# EAGLE library part DSPIC33EP512MU814 (library MyComponents)
dsPIC33EP512MU814
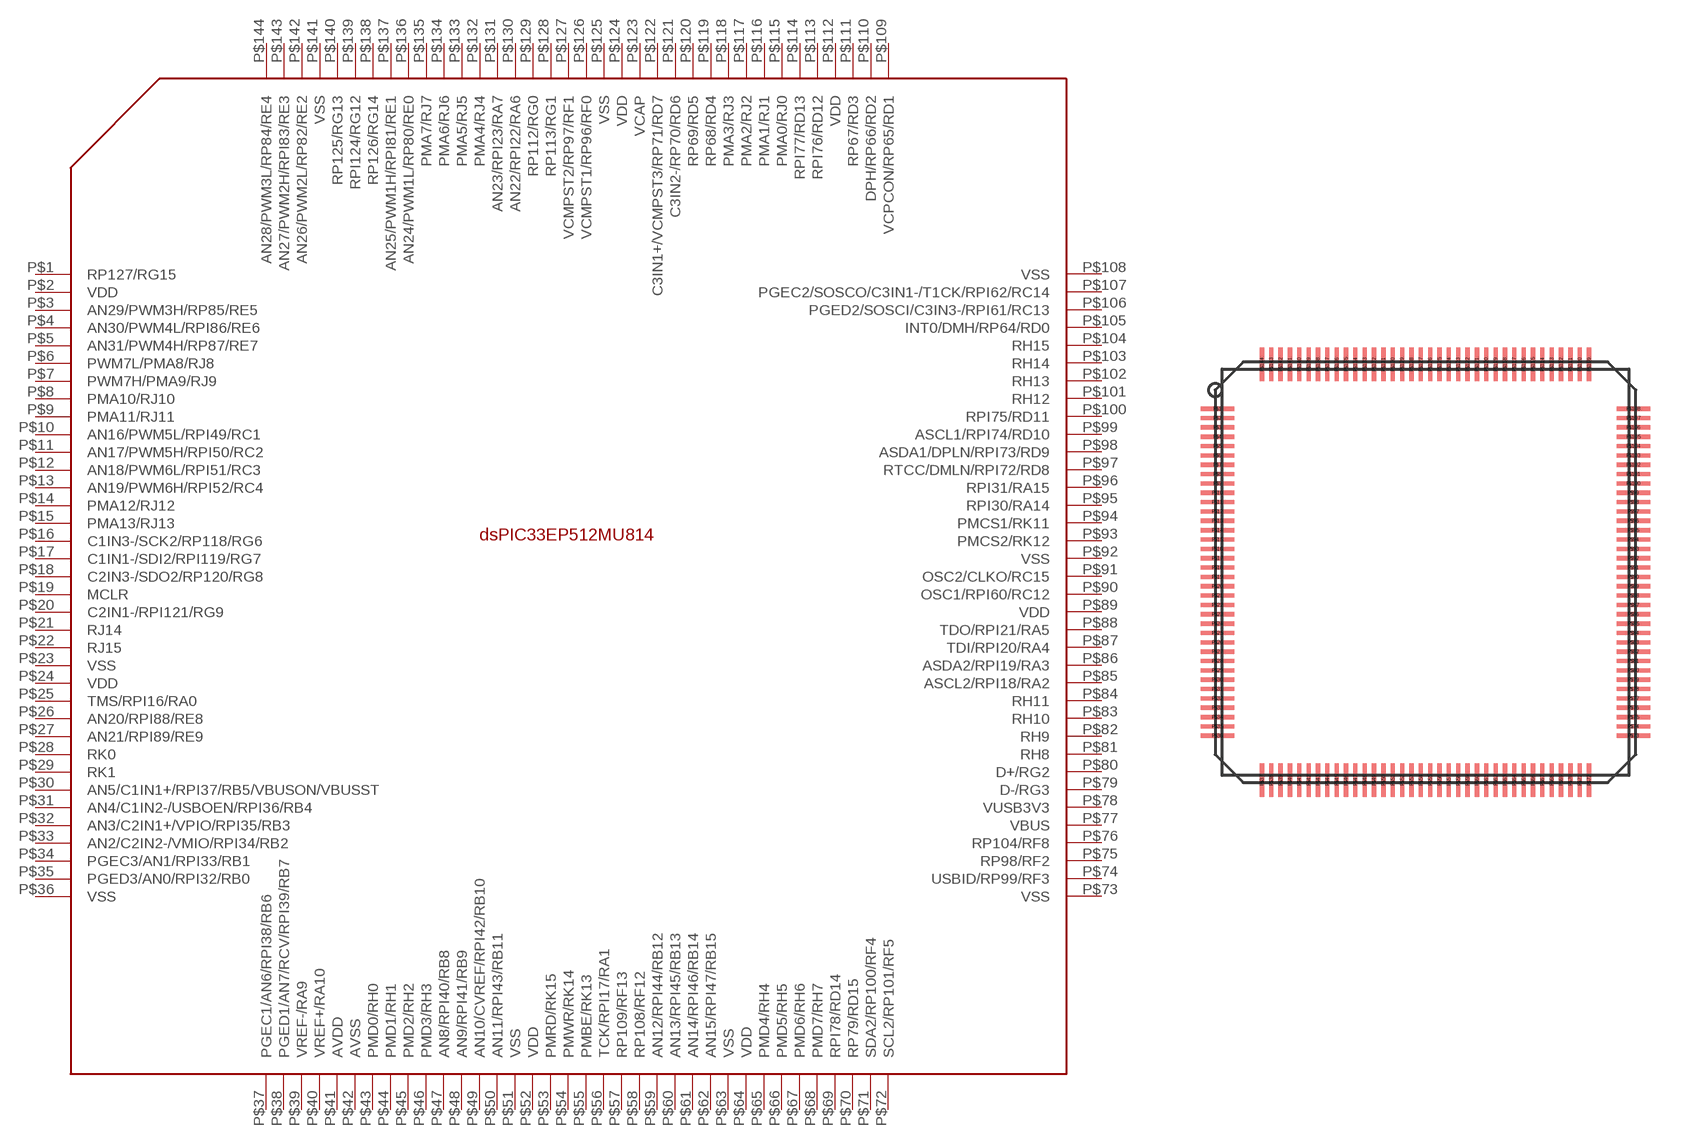
[diagram p4: symbol with the pads of TQFP144-0.40; footprint TQFP144-0.40]

Designator prefix -

## DSPIC33EP512MU814  [TQFP144-0.40]
P$1  RP127/RG15
P$2  VDD
P$3  AN29/PWM3H/RP85/RE5
P$4  AN30/PWM4L/RPI86/RE6
P$5  AN31/PWM4H/RP87/RE7
P$6  PWM7L/PMA8/RJ8
P$7  PWM7H/PMA9/RJ9
P$8  PMA10/RJ10
P$9  PMA11/RJ11
P$10  AN16/PWM5L/RPI49/RC1
P$11  AN17/PWM5H/RPI50/RC2
P$12  AN18/PWM6L/RPI51/RC3
P$13  AN19/PWM6H/RPI52/RC4
P$14  PMA12/RJ12
P$15  PMA13/RJ13
P$16  C1IN3-/SCK2/RP118/RG6
P$17  C1IN1-/SDI2/RPI119/RG7
P$18  C2IN3-/SDO2/RP120/RG8
P$19  MCLR
P$20  C2IN1-/RPI121/RG9
P$21  RJ14
P$22  RJ15
P$23  VSS
P$24  VDD
P$25  TMS/RPI16/RA0
P$26  AN20/RPI88/RE8
P$27  AN21/RPI89/RE9
P$28  RK0
P$29  RK1
P$30  AN5/C1IN1+/RPI37/RB5/VBUSON/VBUSST
P$31  AN4/C1IN2-/USBOEN/RPI36/RB4
P$32  AN3/C2IN1+/VPIO/RPI35/RB3
P$33  AN2/C2IN2-/VMIO/RPI34/RB2
P$34  PGEC3/AN1/RPI33/RB1
P$35  PGED3/AN0/RPI32/RB0
P$36  VSS
P$37  PGEC1/AN6/RPI38/RB6
P$38  PGED1/AN7/RCV/RPI39/RB7
P$39  VREF-/RA9
P$40  VREF+/RA10
P$41  AVDD
P$42  AVSS
P$43  PMD0/RH0
P$44  PMD1/RH1
P$45  PMD2/RH2
P$46  PMD3/RH3
P$47  AN8/RPI40/RB8
P$48  AN9/RPI41/RB9
P$49  AN10/CVREF/RPI42/RB10
P$50  AN11/RPI43/RB11
P$51  VSS
P$52  VDD
P$53  PMRD/RK15
P$54  PMWR/RK14
P$55  PMBE/RK13
P$56  TCK/RPI17/RA1
P$57  RP109/RF13
P$58  RP108/RF12
P$59  AN12/RPI44/RB12
P$60  AN13/RPI45/RB13
P$61  AN14/RPI46/RB14
P$62  AN15/RPI47/RB15
P$63  VSS
P$64  VDD
P$65  PMD4/RH4
P$66  PMD5/RH5
P$67  PMD6/RH6
P$68  PMD7/RH7
P$69  RPI78/RD14
P$70  RP79/RD15
P$71  SDA2/RP100/RF4
P$72  SCL2/RP101/RF5
P$73  VSS
P$74  USBID/RP99/RF3
P$75  RP98/RF2
P$76  RP104/RF8
P$77  VBUS
P$78  VUSB3V3
P$79  D-/RG3
P$80  D+/RG2
P$81  RH8
P$82  RH9
P$83  RH10
P$84  RH11
P$85  ASCL2/RPI18/RA2
P$86  ASDA2/RPI19/RA3
P$87  TDI/RPI20/RA4
P$88  TDO/RPI21/RA5
P$89  VDD
P$90  OSC1/RPI60/RC12
P$91  OSC2/CLKO/RC15
P$92  VSS
P$93  PMCS2/RK12
P$94  PMCS1/RK11
P$95  RPI30/RA14
P$96  RPI31/RA15
P$97  RTCC/DMLN/RPI72/RD8
P$98  ASDA1/DPLN/RPI73/RD9
P$99  ASCL1/RPI74/RD10
P$100  RPI75/RD11
P$101  RH12
P$102  RH13
P$103  RH14
P$104  RH15
P$105  INT0/DMH/RP64/RD0
P$106  PGED2/SOSCI/C3IN3-/RPI61/RC13
P$107  PGEC2/SOSCO/C3IN1-/T1CK/RPI62/RC14
P$108  VSS
P$109  VCPCON/RP65/RD1
P$110  DPH/RP66/RD2
P$111  RP67/RD3
P$112  VDD
P$113  RPI76/RD12
P$114  RPI77/RD13
P$115  PMA0/RJ0
P$116  PMA1/RJ1
P$117  PMA2/RJ2
P$118  PMA3/RJ3
P$119  RP68/RD4
P$120  RP69/RD5
P$121  C3IN2-/RP70/RD6
P$122  C3IN1+/VCMPST3/RP71/RD7
P$123  VCAP
P$124  VDD
P$125  VSS
P$126  VCMPST1/RP96/RF0
P$127  VCMPST2/RP97/RF1
P$128  RP113/RG1
P$129  RP112/RG0
P$130  AN22/RPI22/RA6
P$131  AN23/RPI23/RA7
P$132  PMA4/RJ4
P$133  PMA5/RJ5
P$134  PMA6/RJ6
P$135  PMA7/RJ7
P$136  AN24/PWM1L/RP80/RE0
P$137  AN25/PWM1H/RPI81/RE1
P$138  RP126/RG14
P$139  RPI124/RG12
P$140  RP125/RG13
P$141  VSS
P$142  AN26/PWM2L/RP82/RE2
P$143  AN27/PWM2H/RPI83/RE3
P$144  AN28/PWM3L/RP84/RE4

## Footprint TQFP144-0.40 (pad centres in mm)
smd 1.45 x 0.18: P$1 -8.9,7; P$2 -8.9,6.6; P$3 -8.9,6.2; P$4 -8.9,5.8; P$5 -8.9,5.4; P$6 -8.9,5; P$7 -8.9,4.6; P$8 -8.9,4.2; P$9 -8.9,3.8; P$10 -8.9,3.4; P$11 -8.9,3; P$12 -8.9,2.6; P$13 -8.9,2.2; P$14 -8.9,1.8; P$15 -8.9,1.4; P$16 -8.9,1; P$17 -8.9,0.6; P$18 -8.9,0.2; P$19 -8.9,-0.2; P$20 -8.9,-0.6; P$21 -8.9,-1; P$22 -8.9,-1.4; P$23 -8.9,-1.8; P$24 -8.9,-2.2; P$25 -8.9,-2.6; P$26 -8.9,-3; P$27 -8.9,-3.4; P$28 -8.9,-3.8; P$29 -8.9,-4.2; P$30 -8.9,-4.6; P$31 -8.9,-5; P$32 -8.9,-5.4; P$33 -8.9,-5.8; P$34 -8.9,-6.2; P$35 -8.9,-6.6; P$36 -8.9,-7; P$73 8.9,-7; P$74 8.9,-6.6; P$75 8.9,-6.2; P$76 8.9,-5.8; P$77 8.9,-5.4; P$78 8.9,-5; P$79 8.9,-4.6; P$80 8.9,-4.2; P$81 8.9,-3.8; P$82 8.9,-3.4; P$83 8.9,-3; P$84 8.9,-2.6; P$85 8.9,-2.2; P$86 8.9,-1.8; P$87 8.9,-1.4; P$88 8.9,-1; P$89 8.9,-0.6; P$90 8.9,-0.2; P$91 8.9,0.2; P$92 8.9,0.6; P$93 8.9,1; P$94 8.9,1.4; P$95 8.9,1.8; P$96 8.9,2.2; P$97 8.9,2.6; P$98 8.9,3; P$99 8.9,3.4; P$100 8.9,3.8; P$101 8.9,4.2; P$102 8.9,4.6; P$103 8.9,5; P$104 8.9,5.4; P$105 8.9,5.8; P$106 8.9,6.2; P$107 8.9,6.6; P$108 8.9,7
smd 0.18 x 1.45: P$37 -7,-8.9; P$38 -6.6,-8.9; P$39 -6.2,-8.9; P$40 -5.8,-8.9; P$41 -5.4,-8.9; P$42 -5,-8.9; P$43 -4.6,-8.9; P$44 -4.2,-8.9; P$45 -3.8,-8.9; P$46 -3.4,-8.9; P$47 -3,-8.9; P$48 -2.6,-8.9; P$49 -2.2,-8.9; P$50 -1.8,-8.9; P$51 -1.4,-8.9; P$52 -1,-8.9; P$53 -0.6,-8.9; P$54 -0.2,-8.9; P$55 0.2,-8.9; P$56 0.6,-8.9; P$57 1,-8.9; P$58 1.4,-8.9; P$59 1.8,-8.9; P$60 2.2,-8.9; P$61 2.6,-8.9; P$62 3,-8.9; P$63 3.4,-8.9; P$64 3.8,-8.9; P$65 4.2,-8.9; P$66 4.6,-8.9; P$67 5,-8.9; P$68 5.4,-8.9; P$69 5.8,-8.9; P$70 6.2,-8.9; P$71 6.6,-8.9; P$72 7,-8.9; P$109 7,8.9; P$110 6.6,8.9; P$111 6.2,8.9; P$112 5.8,8.9; P$113 5.4,8.9; P$114 5,8.9; P$115 4.6,8.9; P$116 4.2,8.9; P$117 3.8,8.9; P$118 3.4,8.9; P$119 3,8.9; P$120 2.6,8.9; P$121 2.2,8.9; P$122 1.8,8.9; P$123 1.4,8.9; P$124 1,8.9; P$125 0.6,8.9; P$126 0.2,8.9; P$127 -0.2,8.9; P$128 -0.6,8.9; P$129 -1,8.9; P$130 -1.4,8.9; P$131 -1.8,8.9; P$132 -2.2,8.9; P$133 -2.6,8.9; P$134 -3,8.9; P$135 -3.4,8.9; P$136 -3.8,8.9; P$137 -4.2,8.9; P$138 -4.6,8.9; P$139 -5,8.9; P$140 -5.4,8.9; P$141 -5.8,8.9; P$142 -6.2,8.9; P$143 -6.6,8.9; P$144 -7,8.9